# Altium schematic symbol library OPA.SchLib: 2 symbols
Pins are listed as number, name and electrical type; pins without a type are passive.

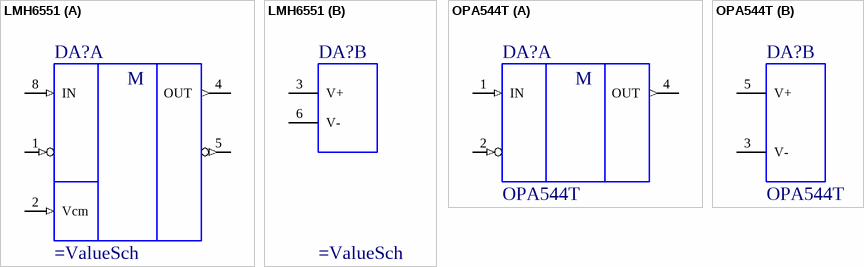
[diagram p0: symbols LMH6551 to OPA544T]

## LMH6551
designator DA?
Full differential High Op Amp
part A pins: 1 -IN (in) "Negative input", 2 Vcm (in) "Comon mode input", 4 OUT (out) "Positive output", 5 OUT- (out) "Negative output", 8 IN (in) "Positive input"
part B pins: 3 V+ (power) "Positive supply", 6 V- (power) "Negative supply"
part A text: M

## OPA544T
designator DA?
High-Viltage, High-Current Operational Amplifier; ValueSch: OPA544T
part A pins: 1 IN (in) "Не инвертирующий вход", 2 IN- (in) "Инвертирующий вход", 4 OUT (out) "Выход"
part B pins: 3 V- (power) "Отрицательное питание", 5 V+ (power) "Положительное питание"
part A text: M